# Altium schematic symbol library myparts.SchLib: 3 symbols
Pins are listed as number, name and electrical type; pins without a type are passive.

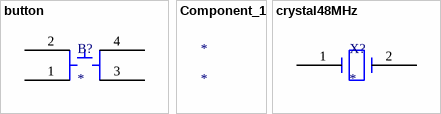
[diagram p0: symbols button to crystal48MHz]

## button
designator B?
footprint buttonf
pins: 1, 2, 3, 4

## Component_1
designator *

## crystal48MHz
designator X?
footprint crystal48MHzf
pins: 1, 2